# Altium schematic symbol library CM6642.SchLib: 1 symbol
Pins are listed as number, name and electrical type; pins without a type are passive.

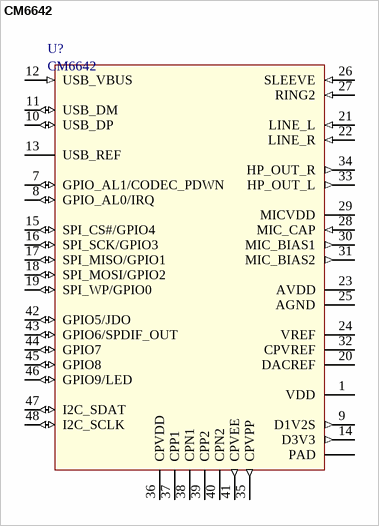
[diagram p0: symbol CM6642]

## CM6642
designator U?
USB 2.0 High-Speed Audio Codec
footprint QFN-48-5x6.5 (QFN, 48-Leads, Body 5.00x6.50mm, Pitch 0.40mm, Thermal Pad 3.85x5.35mm, IPC Medium Density)
pins: 1 VDD, 7 GPIO_AL1/CODEC_PDWN (io), 8 GPIO_AL0/IRQ (io), 9 D1V2S (out), 10 USB_DP (io), 11 USB_DM (io), 12 USB_VBUS (in), 13 USB_REF, 14 D3V3 (out), 15 SPI_CS#/GPIO4 (io), 16 SPI_SCK/GPIO3 (io), 17 SPI_MISO/GPIO1 (io), 18 SPI_MOSI/GPIO2 (io), 19 SPI_WP/GPIO0 (io), 20 DACREF, 21 LINE_L (in), 22 LINE_R (in), 23 AVDD (power), 24 VREF, 25 AGND (power), 26 SLEEVE (in), 27 RING2 (in), 28 MIC_CAP (in), 29 MICVDD, 30 MIC_BIAS1 (out), 31 MIC_BIAS2 (out), 32 CPVREF, 33 HP_OUT_L (out), 34 HP_OUT_R (out), 35 CPVPP (out), 36 CPVDD (power), 37 CPP1, 38 CPN1, 39 CPP2, 40 CPN2, 41 CPVEE (out), 42 GPIO5/JDO (io), 43 GPIO6/SPDIF_OUT (io), 44 GPIO7 (io), 45 GPIO8 (io), 46 GPIO9/LED (io), 47 I2C_SDAT (io), 48 I2C_SCLK (io), PAD